# Altium integrated library JN3.IntLib: 1 symbol
Pins are listed as number, name and electrical type; pins without a type are passive.

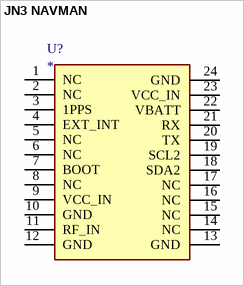
[diagram p0: symbol JN3 NAVMAN]

## JN3 NAVMAN
designator U?
datasheet: https://www.micro-semiconductor.es/datasheet/0e-JN3-B3A3-LR.pdf
footprint GPS
pins: 1 NC, 2 NC, 3 1PPS, 4 EXT_INT, 5 NC, 6 NC, 7 BOOT, 8 NC, 9 VCC_IN, 10 GND, 11 RF_IN, 12 GND, 13 GND, 14 NC, 15 NC, 16 NC, 17 NC, 18 SDA2, 19 SCL2, 20 TX, 21 RX, 22 VBATT, 23 VCC_IN, 24 GND